# Altium footprint library SMT0805.PcbLib: 4 footprints
Each footprint in its own frame and in the unit in brackets; x right, y up, seen from the top. Pads: shape width x height; smd on the part's side, far side on the other; paste and mask are expansions set on the pad; w line width, h text height; cw(c..) or ccw(c..) is an arc to the next point about the centre after c.
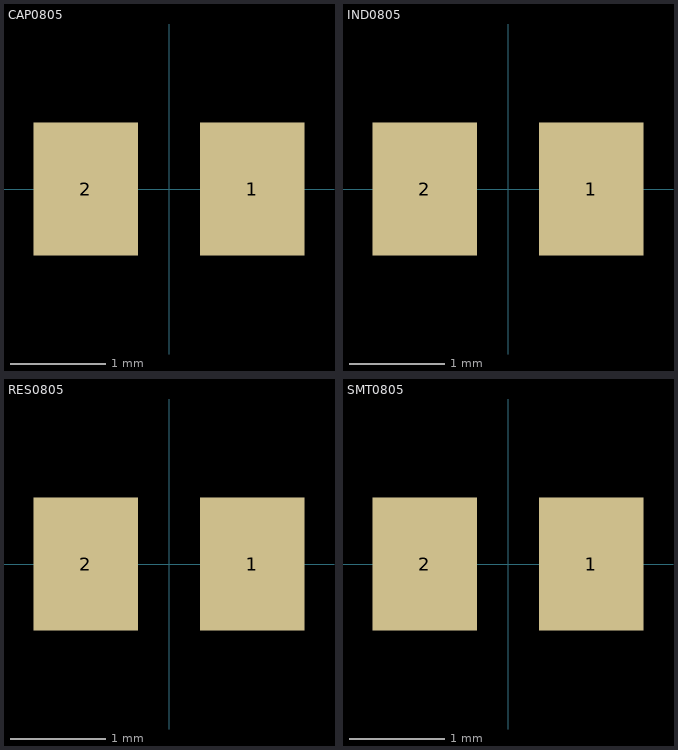
[diagram p0: the footprints below, top view; thin cyan lines are the x and y axes]

## CAP0805 [mm]
height 0.6
pads (2):
  rect 1.1x1.4 smd: 1(0.875,0) 2(-0.875,0)
3D body "CAP-0805.step": height 0.57, standoff 0, extent -1,-0.635 1,0.635

## IND0805 [mm]
height 0.6
pads (2):
  rect 1.1x1.4 smd: 1(0.875,0) 2(-0.875,0)
3D body "IND-0805.step": height 1.05, standoff 0, extent -1,-0.625 1,0.625

## RES0805 [mm]
height 0.6
pads (2):
  rect 1.1x1.4 smd: 1(0.875,0) 2(-0.875,0)
3D body "RES-0805.step": height 0.7, standoff 0, extent -1,-0.6 1,0.6

## SMT0805 [mm]
height 0.6
pads (2):
  rect 1.1x1.4 smd: 1(0.875,0) 2(-0.875,0)
3D body: height 1.5, standoff 0, extent -1.212,-0.65 1.213,0.65